# EAGLE library part PCM2702 (library ti-pcm2xxx)
105dB SNR Stereo USB2.0 FS DAC with line-out (Self-powered) <http://focus.ti.com/docs/prod/folders/print/pcm2702.html>
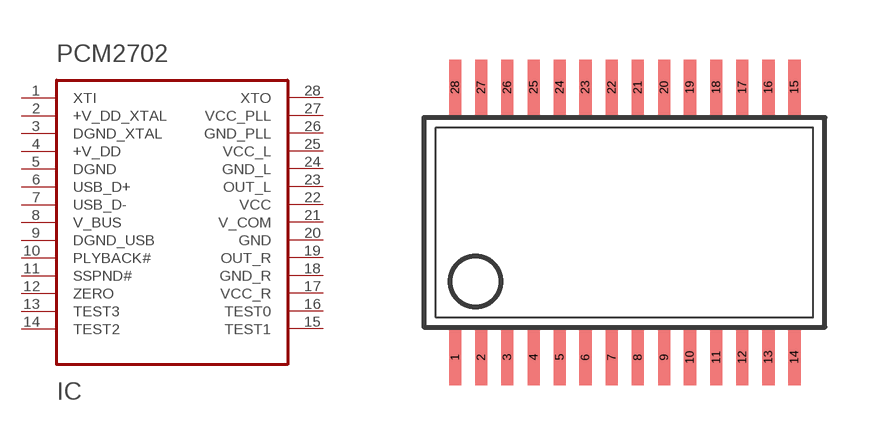
[diagram p0: symbol with the pads of SSOP28; footprint SSOP28]

Designator prefix IC

## PCM2702  [SSOP28]
1  XTI
2  +V_DD_XTAL
3  DGND_XTAL
4  +V_DD
5  DGND
6  USB_D+
7  USB_D-
8  V_BUS
9  DGND_USB
10  PLYBACK#
11  SSPND#
12  ZERO
13  TEST3
14  TEST2
15  TEST1
16  TEST0
17  VCC_R
18  GND_R
19  OUT_R
20  GND
21  V_COM
22  VCC
23  OUT_L
24  GND_L
25  VCC_L
26  GND_PLL
27  VCC_PLL
28  XTO

## Footprint SSOP28 (pad centres in mm)
Shrink small-outline 28
smd 0.305 x 1.397: 1 -4.039,-2.856; 2 -3.384,-2.856; 3 -2.729,-2.856; 4 -2.064,-2.856; 5 -1.409,-2.856; 6 -0.764,-2.856; 7 -0.099,-2.856; 8 0.556,-2.856; 9 1.221,-2.856; 10 1.866,-2.856; 11 2.531,-2.856; 12 3.186,-2.856; 13 3.841,-2.856; 14 4.496,-2.856; 15 4.496,3.937; 16 3.841,3.937; 17 3.186,3.937; 18 2.531,3.937; 19 1.866,3.937; 20 1.221,3.937; 21 0.556,3.937; 22 -0.099,3.937; 23 -0.764,3.937; 24 -1.409,3.937; 25 -2.064,3.937; 26 -2.729,3.937; 27 -3.384,3.937; 28 -4.039,3.937